# Altium integrated library Linear Technology Operational Amplifiers (LT2000-LT6000).IntLib: 1710 symbols (part 2 of 75)
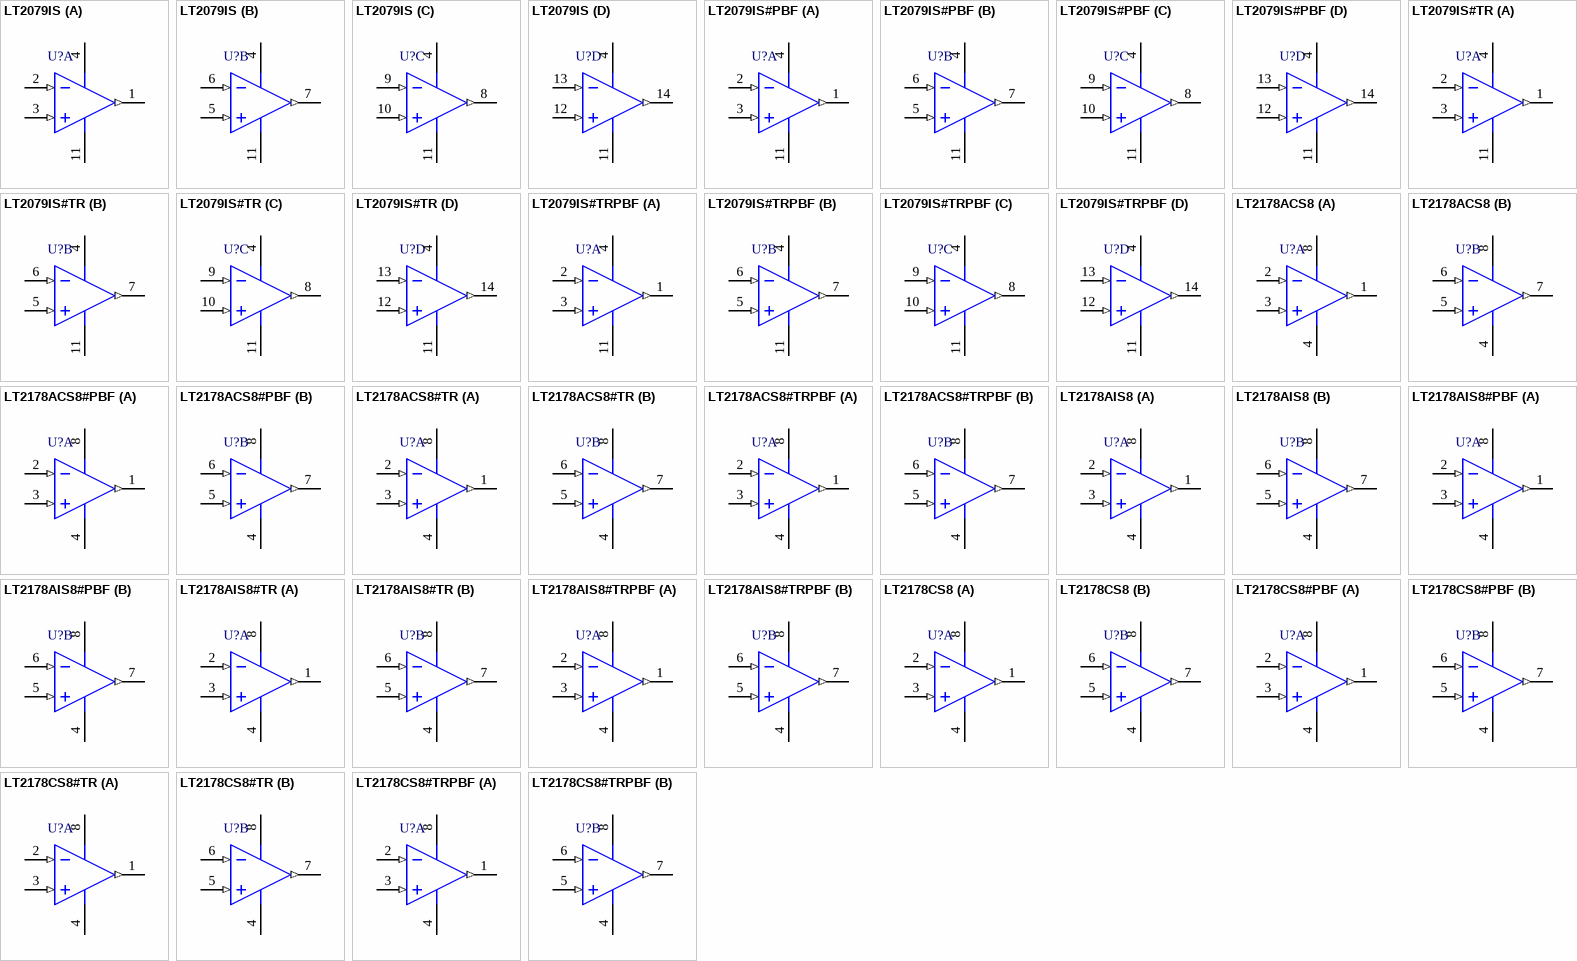
[diagram p81: symbols LT2079IS to LT2178CS8#TRPBF]

## LT2079IS#TRPBF
designator U?
Quad Channel, Micropower, Standard Pinout, Single Supply Precision Operational Amplifier, 0.2 MHz Typical GBW, 0.07 V/us Typical SR, 2.3 to 44 V, 14-Pin SOIC (S-14), Industrial, Pb-Free, Reel; Linear Technology Part Number: LT2079; Manufacturer: Linear Technology; PartNumber: LT2079IS#TRPBF; Channels (#): 4; GBW (MHz) Typical: 0.2; Is (mA) Typical: 0.035; SR (V/us) Typical: 0.07; Vos (mV) Guaranteed: 0.11; Vs Max (V): 44; Vs Min (V): 2.3; DatasheetVersion: Rev. A; PackageVersion: Rev G; PackageReference: LT-S-14; PackageDescription: 14-Lead Plastic Small Outline, Body 8.65 x 3.90 mm, Pitch 1.27 mm; Supplier 1: Digi-Key; Supplier Part Number 1: LT2079IS#TRPBF-ND; Packing: Reel; RoHS: Pb-Free; Type: VFB; Vos (mV) Typical: 0.035; Mounting Technology: Surface Mount; ComponentLink1Description: Manufacturer URL; ComponentLink1URL: http://www.linear.com/; ComponentLink2Description: Datasheet; ComponentLink2URL: http://cds.linear.com/docs/en/datasheet/20789fa.pdf; ComponentLink3Description: Package Specification; ComponentLink3URL: http://cds.linear.com/docs/en/packaging/05081610_G_S14.pdf
footprint LT-S-14_N (SOIC, 14-Leads, Body 8.65x3.90mm, Pitch 1.27mm, IPC Medium Density)
footprint LT-S-14_L (SOIC, 14-Leads, Body 8.65x3.90mm, Pitch 1.27mm, IPC High Density)
footprint LT-S-14_M (SOIC, 14-Leads, Body 8.65x3.90mm, Pitch 1.27mm, IPC Low Density)
pins on every part: 4 V+ (power), 11 V- (power)
part A pins: 1 OUT A (out), 2 -IN A (in), 3 +IN A (in)
part B pins: 5 +IN B (in), 6 -IN B (in), 7 OUT B (out)
part C pins: 8 OUT C (out), 9 -IN C (in), 10 +IN C (in)
part D pins: 12 +IN D (in), 13 -IN D (in), 14 OUT D (out)

## LT2178ACS8
designator U?
Dual Channel, Micropower, Standard Pinout, Single Supply Precision Operational Amplifier, 0.06 MHz Typical GBW, 0.025 V/us Typical SR, 2.2 to 44 V, 8-Pin SOIC (S8-8), Commercial; Linear Technology Part Number: LT2178; Manufacturer: Linear Technology; PartNumber: LT2178ACS8; Channels (#): 2; GBW (MHz) Typical: 0.06; Is (mA) Typical: 0.013; SR (V/us) Typical: 0.025; Vos (mV) Guaranteed: 0.07; Vos (mV) Typical: 0.03; Vs Max (V): 44; Vs Min (V): 2.2; DatasheetVersion: Rev. C; PackageVersion: Rev G; PackageReference: LT-S8-8; PackageDescription: 8-Pin Plastic Small Outline, Body 4.9 x 3.9 mm, Pitch 1.27 mm; Supplier 1: Digi-Key; Supplier Part Number 1: LT2178ACS8-ND; Type: VFB; Mounting Technology: Surface Mount; ComponentLink1Description: Manufacturer URL; ComponentLink1URL: http://www.linear.com/; ComponentLink2Description: Datasheet; ComponentLink2URL: http://cds.linear.com/docs/en/datasheet/21789fc.pdf; ComponentLink3Description: Package Specification; ComponentLink3URL: http://cds.linear.com/docs/en/packaging/05081610_G_SO8.pdf
footprint LT-S8-8_N (SOIC, 8-Leads, Body 4.9x3.9mm, Pitch 1.27mm, IPC Medium Density)
footprint LT-S8-8_L (SOIC, 8-Leads, Body 4.9x3.9mm, Pitch 1.27mm, IPC High Density)
footprint LT-S8-8_M (SOIC, 8-Leads, Body 4.9x3.9mm, Pitch 1.27mm, IPC Low Density)
pins on every part: 4 V- (power), 8 V+ (power)
part A pins: 1 OUT A (out), 2 -IN A (in), 3 +IN A (in)
part B pins: 5 +IN B (in), 6 -IN B (in), 7 OUT B (out)

## LT2178ACS8#PBF
designator U?
Dual Channel, Micropower, Standard Pinout, Single Supply Precision Operational Amplifier, 0.06 MHz Typical GBW, 0.025 V/us Typical SR, 2.2 to 44 V, 8-Pin SOIC (S8-8), Commercial, Pb-Free; Linear Technology Part Number: LT2178; Manufacturer: Linear Technology; PartNumber: LT2178ACS8#PBF; Channels (#): 2; GBW (MHz) Typical: 0.06; Is (mA) Typical: 0.013; SR (V/us) Typical: 0.025; Vos (mV) Guaranteed: 0.07; Vos (mV) Typical: 0.03; Vs Max (V): 44; Vs Min (V): 2.2; DatasheetVersion: Rev. C; PackageVersion: Rev G; PackageReference: LT-S8-8; PackageDescription: 8-Pin Plastic Small Outline, Body 4.9 x 3.9 mm, Pitch 1.27 mm; Supplier 1: Digi-Key; Supplier Part Number 1: LT2178ACS8#PBF-ND; RoHS: Pb-Free; Type: VFB; Mounting Technology: Surface Mount; ComponentLink1Description: Manufacturer URL; ComponentLink1URL: http://www.linear.com/; ComponentLink2Description: Datasheet; ComponentLink2URL: http://cds.linear.com/docs/en/datasheet/21789fc.pdf; ComponentLink3Description: Package Specification; ComponentLink3URL: http://cds.linear.com/docs/en/packaging/05081610_G_SO8.pdf
footprint LT-S8-8_N (SOIC, 8-Leads, Body 4.9x3.9mm, Pitch 1.27mm, IPC Medium Density)
footprint LT-S8-8_L (SOIC, 8-Leads, Body 4.9x3.9mm, Pitch 1.27mm, IPC High Density)
footprint LT-S8-8_M (SOIC, 8-Leads, Body 4.9x3.9mm, Pitch 1.27mm, IPC Low Density)
pins on every part: 4 V- (power), 8 V+ (power)
part A pins: 1 OUT A (out), 2 -IN A (in), 3 +IN A (in)
part B pins: 5 +IN B (in), 6 -IN B (in), 7 OUT B (out)

## LT2178ACS8#TR
designator U?
Dual Channel, Micropower, Standard Pinout, Single Supply Precision Operational Amplifier, 0.06 MHz Typical GBW, 0.025 V/us Typical SR, 2.2 to 44 V, 8-Pin SOIC (S8-8), Commercial, Reel; Linear Technology Part Number: LT2178; Manufacturer: Linear Technology; PartNumber: LT2178ACS8#TR; Channels (#): 2; GBW (MHz) Typical: 0.06; Is (mA) Typical: 0.013; SR (V/us) Typical: 0.025; Vos (mV) Guaranteed: 0.07; Vos (mV) Typical: 0.03; Vs Max (V): 44; Vs Min (V): 2.2; DatasheetVersion: Rev. C; PackageVersion: Rev G; PackageReference: LT-S8-8; PackageDescription: 8-Pin Plastic Small Outline, Body 4.9 x 3.9 mm, Pitch 1.27 mm; Supplier 1: Digi-Key; Supplier Part Number 1: LT2178ACS8#TR-ND; Packing: Reel; Type: VFB; Mounting Technology: Surface Mount; ComponentLink1Description: Manufacturer URL; ComponentLink1URL: http://www.linear.com/; ComponentLink2Description: Datasheet; ComponentLink2URL: http://cds.linear.com/docs/en/datasheet/21789fc.pdf; ComponentLink3Description: Package Specification; ComponentLink3URL: http://cds.linear.com/docs/en/packaging/05081610_G_SO8.pdf
footprint LT-S8-8_N (SOIC, 8-Leads, Body 4.9x3.9mm, Pitch 1.27mm, IPC Medium Density)
footprint LT-S8-8_L (SOIC, 8-Leads, Body 4.9x3.9mm, Pitch 1.27mm, IPC High Density)
footprint LT-S8-8_M (SOIC, 8-Leads, Body 4.9x3.9mm, Pitch 1.27mm, IPC Low Density)
pins on every part: 4 V- (power), 8 V+ (power)
part A pins: 1 OUT A (out), 2 -IN A (in), 3 +IN A (in)
part B pins: 5 +IN B (in), 6 -IN B (in), 7 OUT B (out)

## LT2178ACS8#TRPBF
designator U?
Dual Channel, Micropower, Standard Pinout, Single Supply Precision Operational Amplifier, 0.06 MHz Typical GBW, 0.025 V/us Typical SR, 2.2 to 44 V, 8-Pin SOIC (S8-8), Commercial, Pb-Free, Reel; Linear Technology Part Number: LT2178; Manufacturer: Linear Technology; PartNumber: LT2178ACS8#TRPBF; Channels (#): 2; GBW (MHz) Typical: 0.06; Is (mA) Typical: 0.013; SR (V/us) Typical: 0.025; Vos (mV) Guaranteed: 0.07; Vos (mV) Typical: 0.03; Vs Max (V): 44; Vs Min (V): 2.2; DatasheetVersion: Rev. C; PackageVersion: Rev G; PackageReference: LT-S8-8; PackageDescription: 8-Pin Plastic Small Outline, Body 4.9 x 3.9 mm, Pitch 1.27 mm; Supplier 1: Digi-Key; Supplier Part Number 1: LT2178ACS8#TRPBF-ND; Packing: Reel; RoHS: Pb-Free; Type: VFB; Mounting Technology: Surface Mount; ComponentLink1Description: Manufacturer URL; ComponentLink1URL: http://www.linear.com/; ComponentLink2Description: Datasheet; ComponentLink2URL: http://cds.linear.com/docs/en/datasheet/21789fc.pdf; ComponentLink3Description: Package Specification; ComponentLink3URL: http://cds.linear.com/docs/en/packaging/05081610_G_SO8.pdf
footprint LT-S8-8_N (SOIC, 8-Leads, Body 4.9x3.9mm, Pitch 1.27mm, IPC Medium Density)
footprint LT-S8-8_L (SOIC, 8-Leads, Body 4.9x3.9mm, Pitch 1.27mm, IPC High Density)
footprint LT-S8-8_M (SOIC, 8-Leads, Body 4.9x3.9mm, Pitch 1.27mm, IPC Low Density)
pins on every part: 4 V- (power), 8 V+ (power)
part A pins: 1 OUT A (out), 2 -IN A (in), 3 +IN A (in)
part B pins: 5 +IN B (in), 6 -IN B (in), 7 OUT B (out)

## LT2178AIS8
designator U?
Dual Channel, Micropower, Standard Pinout, Single Supply Precision Operational Amplifier, 0.06 MHz Typical GBW, 0.025 V/us Typical SR, 2.2 to 44 V, 8-Pin SOIC (S8-8), Industrial; Linear Technology Part Number: LT2178; Manufacturer: Linear Technology; PartNumber: LT2178AIS8; Channels (#): 2; GBW (MHz) Typical: 0.06; Is (mA) Typical: 0.013; SR (V/us) Typical: 0.025; Vos (mV) Guaranteed: 0.07; Vos (mV) Typical: 0.03; Vs Max (V): 44; Vs Min (V): 2.2; DatasheetVersion: Rev. C; PackageVersion: Rev G; PackageReference: LT-S8-8; PackageDescription: 8-Pin Plastic Small Outline, Body 4.9 x 3.9 mm, Pitch 1.27 mm; Supplier 1: Digi-Key; Supplier Part Number 1: LT2178AIS8-ND; Type: VFB; Mounting Technology: Surface Mount; ComponentLink1Description: Manufacturer URL; ComponentLink1URL: http://www.linear.com/; ComponentLink2Description: Datasheet; ComponentLink2URL: http://cds.linear.com/docs/en/datasheet/21789fc.pdf; ComponentLink3Description: Package Specification; ComponentLink3URL: http://cds.linear.com/docs/en/packaging/05081610_G_SO8.pdf
footprint LT-S8-8_N (SOIC, 8-Leads, Body 4.9x3.9mm, Pitch 1.27mm, IPC Medium Density)
footprint LT-S8-8_L (SOIC, 8-Leads, Body 4.9x3.9mm, Pitch 1.27mm, IPC High Density)
footprint LT-S8-8_M (SOIC, 8-Leads, Body 4.9x3.9mm, Pitch 1.27mm, IPC Low Density)
pins on every part: 4 V- (power), 8 V+ (power)
part A pins: 1 OUT A (out), 2 -IN A (in), 3 +IN A (in)
part B pins: 5 +IN B (in), 6 -IN B (in), 7 OUT B (out)

## LT2178AIS8#PBF
designator U?
Dual Channel, Micropower, Standard Pinout, Single Supply Precision Operational Amplifier, 0.06 MHz Typical GBW, 0.025 V/us Typical SR, 2.2 to 44 V, 8-Pin SOIC (S8-8), Industrial, Pb-Free; Linear Technology Part Number: LT2178; Manufacturer: Linear Technology; PartNumber: LT2178AIS8#PBF; Channels (#): 2; GBW (MHz) Typical: 0.06; Is (mA) Typical: 0.013; SR (V/us) Typical: 0.025; Vos (mV) Guaranteed: 0.07; Vos (mV) Typical: 0.03; Vs Max (V): 44; Vs Min (V): 2.2; DatasheetVersion: Rev. C; PackageVersion: Rev G; PackageReference: LT-S8-8; PackageDescription: 8-Pin Plastic Small Outline, Body 4.9 x 3.9 mm, Pitch 1.27 mm; Supplier 1: Digi-Key; Supplier Part Number 1: LT2178AIS8#PBF-ND; Supplier 2: Newark; Supplier Part Number 2: 57M7803; RoHS: Pb-Free; Type: VFB; Mounting Technology: Surface Mount; ComponentLink1Description: Manufacturer URL; ComponentLink1URL: http://www.linear.com/; ComponentLink2Description: Datasheet; ComponentLink2URL: http://cds.linear.com/docs/en/datasheet/21789fc.pdf; ComponentLink3Description: Package Specification; ComponentLink3URL: http://cds.linear.com/docs/en/packaging/05081610_G_SO8.pdf
footprint LT-S8-8_N (SOIC, 8-Leads, Body 4.9x3.9mm, Pitch 1.27mm, IPC Medium Density)
footprint LT-S8-8_L (SOIC, 8-Leads, Body 4.9x3.9mm, Pitch 1.27mm, IPC High Density)
footprint LT-S8-8_M (SOIC, 8-Leads, Body 4.9x3.9mm, Pitch 1.27mm, IPC Low Density)
pins on every part: 4 V- (power), 8 V+ (power)
part A pins: 1 OUT A (out), 2 -IN A (in), 3 +IN A (in)
part B pins: 5 +IN B (in), 6 -IN B (in), 7 OUT B (out)

## LT2178AIS8#TR
designator U?
Dual Channel, Micropower, Standard Pinout, Single Supply Precision Operational Amplifier, 0.06 MHz Typical GBW, 0.025 V/us Typical SR, 2.2 to 44 V, 8-Pin SOIC (S8-8), Industrial, Reel; Linear Technology Part Number: LT2178; Manufacturer: Linear Technology; PartNumber: LT2178AIS8#TR; Channels (#): 2; GBW (MHz) Typical: 0.06; Is (mA) Typical: 0.013; SR (V/us) Typical: 0.025; Vos (mV) Guaranteed: 0.07; Vos (mV) Typical: 0.03; Vs Max (V): 44; Vs Min (V): 2.2; DatasheetVersion: Rev. C; PackageVersion: Rev G; PackageReference: LT-S8-8; PackageDescription: 8-Pin Plastic Small Outline, Body 4.9 x 3.9 mm, Pitch 1.27 mm; Supplier 1: Digi-Key; Supplier Part Number 1: LT2178AIS8#TR-ND; Packing: Reel; Type: VFB; Mounting Technology: Surface Mount; ComponentLink1Description: Manufacturer URL; ComponentLink1URL: http://www.linear.com/; ComponentLink2Description: Datasheet; ComponentLink2URL: http://cds.linear.com/docs/en/datasheet/21789fc.pdf; ComponentLink3Description: Package Specification; ComponentLink3URL: http://cds.linear.com/docs/en/packaging/05081610_G_SO8.pdf
footprint LT-S8-8_N (SOIC, 8-Leads, Body 4.9x3.9mm, Pitch 1.27mm, IPC Medium Density)
footprint LT-S8-8_L (SOIC, 8-Leads, Body 4.9x3.9mm, Pitch 1.27mm, IPC High Density)
footprint LT-S8-8_M (SOIC, 8-Leads, Body 4.9x3.9mm, Pitch 1.27mm, IPC Low Density)
pins on every part: 4 V- (power), 8 V+ (power)
part A pins: 1 OUT A (out), 2 -IN A (in), 3 +IN A (in)
part B pins: 5 +IN B (in), 6 -IN B (in), 7 OUT B (out)

## LT2178AIS8#TRPBF
designator U?
Dual Channel, Micropower, Standard Pinout, Single Supply Precision Operational Amplifier, 0.06 MHz Typical GBW, 0.025 V/us Typical SR, 2.2 to 44 V, 8-Pin SOIC (S8-8), Industrial, Pb-Free, Reel; Linear Technology Part Number: LT2178; Manufacturer: Linear Technology; PartNumber: LT2178AIS8#TRPBF; Channels (#): 2; GBW (MHz) Typical: 0.06; Is (mA) Typical: 0.013; SR (V/us) Typical: 0.025; Vos (mV) Guaranteed: 0.07; Vos (mV) Typical: 0.03; Vs Max (V): 44; Vs Min (V): 2.2; DatasheetVersion: Rev. C; PackageVersion: Rev G; PackageReference: LT-S8-8; PackageDescription: 8-Pin Plastic Small Outline, Body 4.9 x 3.9 mm, Pitch 1.27 mm; Supplier 1: Digi-Key; Supplier Part Number 1: LT2178AIS8#TRPBF-ND; Packing: Reel; RoHS: Pb-Free; Type: VFB; Mounting Technology: Surface Mount; ComponentLink1Description: Manufacturer URL; ComponentLink1URL: http://www.linear.com/; ComponentLink2Description: Datasheet; ComponentLink2URL: http://cds.linear.com/docs/en/datasheet/21789fc.pdf; ComponentLink3Description: Package Specification; ComponentLink3URL: http://cds.linear.com/docs/en/packaging/05081610_G_SO8.pdf
footprint LT-S8-8_N (SOIC, 8-Leads, Body 4.9x3.9mm, Pitch 1.27mm, IPC Medium Density)
footprint LT-S8-8_L (SOIC, 8-Leads, Body 4.9x3.9mm, Pitch 1.27mm, IPC High Density)
footprint LT-S8-8_M (SOIC, 8-Leads, Body 4.9x3.9mm, Pitch 1.27mm, IPC Low Density)
pins on every part: 4 V- (power), 8 V+ (power)
part A pins: 1 OUT A (out), 2 -IN A (in), 3 +IN A (in)
part B pins: 5 +IN B (in), 6 -IN B (in), 7 OUT B (out)

## LT2178CS8
designator U?
Dual Channel, Micropower, Standard Pinout, Single Supply Precision Operational Amplifier, 0.06 MHz Typical GBW, 0.025 V/us Typical SR, 2.2 to 44 V, 8-Pin SOIC (S8-8), Commercial; Linear Technology Part Number: LT2178; Manufacturer: Linear Technology; PartNumber: LT2178CS8; Channels (#): 2; GBW (MHz) Typical: 0.06; Is (mA) Typical: 0.013; SR (V/us) Typical: 0.025; Vos (mV) Guaranteed: 0.07; Vos (mV) Typical: 0.03; Vs Max (V): 44; Vs Min (V): 2.2; DatasheetVersion: Rev. C; PackageVersion: Rev G; PackageReference: LT-S8-8; PackageDescription: 8-Pin Plastic Small Outline, Body 4.9 x 3.9 mm, Pitch 1.27 mm; Supplier 1: Digi-Key; Supplier Part Number 1: LT2178CS8-ND; Type: VFB; Mounting Technology: Surface Mount; ComponentLink1Description: Manufacturer URL; ComponentLink1URL: http://www.linear.com/; ComponentLink2Description: Datasheet; ComponentLink2URL: http://cds.linear.com/docs/en/datasheet/21789fc.pdf; ComponentLink3Description: Package Specification; ComponentLink3URL: http://cds.linear.com/docs/en/packaging/05081610_G_SO8.pdf
footprint LT-S8-8_N (SOIC, 8-Leads, Body 4.9x3.9mm, Pitch 1.27mm, IPC Medium Density)
footprint LT-S8-8_L (SOIC, 8-Leads, Body 4.9x3.9mm, Pitch 1.27mm, IPC High Density)
footprint LT-S8-8_M (SOIC, 8-Leads, Body 4.9x3.9mm, Pitch 1.27mm, IPC Low Density)
pins on every part: 4 V- (power), 8 V+ (power)
part A pins: 1 OUT A (out), 2 -IN A (in), 3 +IN A (in)
part B pins: 5 +IN B (in), 6 -IN B (in), 7 OUT B (out)

## LT2178CS8#PBF
designator U?
Dual Channel, Micropower, Standard Pinout, Single Supply Precision Operational Amplifier, 0.06 MHz Typical GBW, 0.025 V/us Typical SR, 2.2 to 44 V, 8-Pin SOIC (S8-8), Commercial, Pb-Free; Linear Technology Part Number: LT2178; Manufacturer: Linear Technology; PartNumber: LT2178CS8#PBF; Channels (#): 2; GBW (MHz) Typical: 0.06; Is (mA) Typical: 0.013; SR (V/us) Typical: 0.025; Vos (mV) Guaranteed: 0.07; Vos (mV) Typical: 0.03; Vs Max (V): 44; Vs Min (V): 2.2; DatasheetVersion: Rev. C; PackageVersion: Rev G; PackageReference: LT-S8-8; PackageDescription: 8-Pin Plastic Small Outline, Body 4.9 x 3.9 mm, Pitch 1.27 mm; Supplier 1: Digi-Key; Supplier Part Number 1: LT2178CS8#PBF-ND; RoHS: Pb-Free; Type: VFB; Mounting Technology: Surface Mount; ComponentLink1Description: Manufacturer URL; ComponentLink1URL: http://www.linear.com/; ComponentLink2Description: Datasheet; ComponentLink2URL: http://cds.linear.com/docs/en/datasheet/21789fc.pdf; ComponentLink3Description: Package Specification; ComponentLink3URL: http://cds.linear.com/docs/en/packaging/05081610_G_SO8.pdf
footprint LT-S8-8_N (SOIC, 8-Leads, Body 4.9x3.9mm, Pitch 1.27mm, IPC Medium Density)
footprint LT-S8-8_L (SOIC, 8-Leads, Body 4.9x3.9mm, Pitch 1.27mm, IPC High Density)
footprint LT-S8-8_M (SOIC, 8-Leads, Body 4.9x3.9mm, Pitch 1.27mm, IPC Low Density)
pins on every part: 4 V- (power), 8 V+ (power)
part A pins: 1 OUT A (out), 2 -IN A (in), 3 +IN A (in)
part B pins: 5 +IN B (in), 6 -IN B (in), 7 OUT B (out)

## LT2178CS8#TR
designator U?
Dual Channel, Micropower, Standard Pinout, Single Supply Precision Operational Amplifier, 0.06 MHz Typical GBW, 0.025 V/us Typical SR, 2.2 to 44 V, 8-Pin SOIC (S8-8), Commercial, Reel; Linear Technology Part Number: LT2178; Manufacturer: Linear Technology; PartNumber: LT2178CS8#TR; Channels (#): 2; GBW (MHz) Typical: 0.06; Is (mA) Typical: 0.013; SR (V/us) Typical: 0.025; Vos (mV) Guaranteed: 0.07; Vos (mV) Typical: 0.03; Vs Max (V): 44; Vs Min (V): 2.2; DatasheetVersion: Rev. C; PackageVersion: Rev G; PackageReference: LT-S8-8; PackageDescription: 8-Pin Plastic Small Outline, Body 4.9 x 3.9 mm, Pitch 1.27 mm; Supplier 1: Digi-Key; Supplier Part Number 1: LT2178CS8#TR-ND; Packing: Reel; Type: VFB; Mounting Technology: Surface Mount; ComponentLink1Description: Manufacturer URL; ComponentLink1URL: http://www.linear.com/; ComponentLink2Description: Datasheet; ComponentLink2URL: http://cds.linear.com/docs/en/datasheet/21789fc.pdf; ComponentLink3Description: Package Specification; ComponentLink3URL: http://cds.linear.com/docs/en/packaging/05081610_G_SO8.pdf
footprint LT-S8-8_N (SOIC, 8-Leads, Body 4.9x3.9mm, Pitch 1.27mm, IPC Medium Density)
footprint LT-S8-8_L (SOIC, 8-Leads, Body 4.9x3.9mm, Pitch 1.27mm, IPC High Density)
footprint LT-S8-8_M (SOIC, 8-Leads, Body 4.9x3.9mm, Pitch 1.27mm, IPC Low Density)
pins on every part: 4 V- (power), 8 V+ (power)
part A pins: 1 OUT A (out), 2 -IN A (in), 3 +IN A (in)
part B pins: 5 +IN B (in), 6 -IN B (in), 7 OUT B (out)

## LT2178CS8#TRPBF
designator U?
Dual Channel, Micropower, Standard Pinout, Single Supply Precision Operational Amplifier, 0.06 MHz Typical GBW, 0.025 V/us Typical SR, 2.2 to 44 V, 8-Pin SOIC (S8-8), Commercial, Pb-Free, Reel; Linear Technology Part Number: LT2178; Manufacturer: Linear Technology; PartNumber: LT2178CS8#TRPBF; Channels (#): 2; GBW (MHz) Typical: 0.06; Is (mA) Typical: 0.013; SR (V/us) Typical: 0.025; Vos (mV) Guaranteed: 0.07; Vos (mV) Typical: 0.03; Vs Max (V): 44; Vs Min (V): 2.2; DatasheetVersion: Rev. C; PackageVersion: Rev G; PackageReference: LT-S8-8; PackageDescription: 8-Pin Plastic Small Outline, Body 4.9 x 3.9 mm, Pitch 1.27 mm; Supplier 1: Digi-Key; Supplier Part Number 1: LT2178CS8#TRPBF-ND; Packing: Reel; RoHS: Pb-Free; Type: VFB; Mounting Technology: Surface Mount; ComponentLink1Description: Manufacturer URL; ComponentLink1URL: http://www.linear.com/; ComponentLink2Description: Datasheet; ComponentLink2URL: http://cds.linear.com/docs/en/datasheet/21789fc.pdf; ComponentLink3Description: Package Specification; ComponentLink3URL: http://cds.linear.com/docs/en/packaging/05081610_G_SO8.pdf
footprint LT-S8-8_N (SOIC, 8-Leads, Body 4.9x3.9mm, Pitch 1.27mm, IPC Medium Density)
footprint LT-S8-8_L (SOIC, 8-Leads, Body 4.9x3.9mm, Pitch 1.27mm, IPC High Density)
footprint LT-S8-8_M (SOIC, 8-Leads, Body 4.9x3.9mm, Pitch 1.27mm, IPC Low Density)
pins on every part: 4 V- (power), 8 V+ (power)
part A pins: 1 OUT A (out), 2 -IN A (in), 3 +IN A (in)
part B pins: 5 +IN B (in), 6 -IN B (in), 7 OUT B (out)

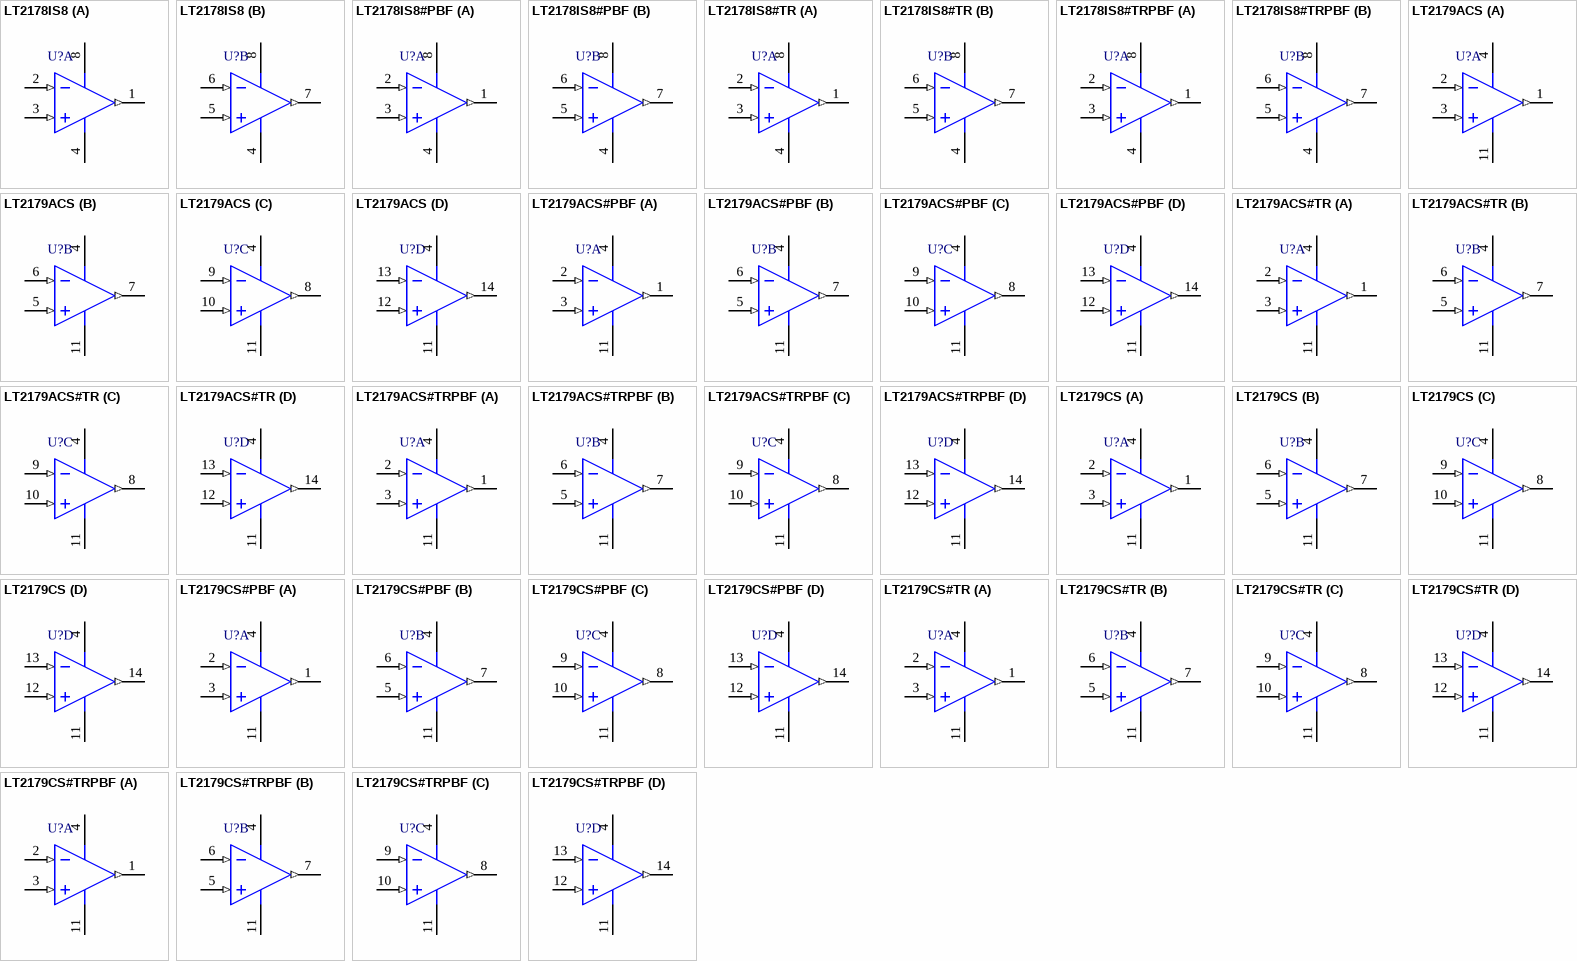
[diagram p3: symbols LT2178IS8 to LT2179CS#TRPBF]

## LT2178IS8
designator U?
Dual Channel, Micropower, Standard Pinout, Single Supply Precision Operational Amplifier, 0.06 MHz Typical GBW, 0.025 V/us Typical SR, 2.2 to 44 V, 8-Pin SOIC (S8-8), Industrial; Linear Technology Part Number: LT2178; Manufacturer: Linear Technology; PartNumber: LT2178IS8; Channels (#): 2; GBW (MHz) Typical: 0.06; Is (mA) Typical: 0.013; SR (V/us) Typical: 0.025; Vos (mV) Guaranteed: 0.07; Vos (mV) Typical: 0.03; Vs Max (V): 44; Vs Min (V): 2.2; DatasheetVersion: Rev. C; PackageVersion: Rev G; PackageReference: LT-S8-8; PackageDescription: 8-Pin Plastic Small Outline, Body 4.9 x 3.9 mm, Pitch 1.27 mm; Supplier 1: Digi-Key; Supplier Part Number 1: LT2178IS8-ND; Type: VFB; Mounting Technology: Surface Mount; ComponentLink1Description: Manufacturer URL; ComponentLink1URL: http://www.linear.com/; ComponentLink2Description: Datasheet; ComponentLink2URL: http://cds.linear.com/docs/en/datasheet/21789fc.pdf; ComponentLink3Description: Package Specification; ComponentLink3URL: http://cds.linear.com/docs/en/packaging/05081610_G_SO8.pdf
footprint LT-S8-8_N (SOIC, 8-Leads, Body 4.9x3.9mm, Pitch 1.27mm, IPC Medium Density)
footprint LT-S8-8_L (SOIC, 8-Leads, Body 4.9x3.9mm, Pitch 1.27mm, IPC High Density)
footprint LT-S8-8_M (SOIC, 8-Leads, Body 4.9x3.9mm, Pitch 1.27mm, IPC Low Density)
pins on every part: 4 V- (power), 8 V+ (power)
part A pins: 1 OUT A (out), 2 -IN A (in), 3 +IN A (in)
part B pins: 5 +IN B (in), 6 -IN B (in), 7 OUT B (out)

## LT2178IS8#PBF
designator U?
Dual Channel, Micropower, Standard Pinout, Single Supply Precision Operational Amplifier, 0.06 MHz Typical GBW, 0.025 V/us Typical SR, 2.2 to 44 V, 8-Pin SOIC (S8-8), Industrial, Pb-Free; Linear Technology Part Number: LT2178; Manufacturer: Linear Technology; PartNumber: LT2178IS8#PBF; Channels (#): 2; GBW (MHz) Typical: 0.06; Is (mA) Typical: 0.013; SR (V/us) Typical: 0.025; Vos (mV) Guaranteed: 0.07; Vos (mV) Typical: 0.03; Vs Max (V): 44; Vs Min (V): 2.2; DatasheetVersion: Rev. C; PackageVersion: Rev G; PackageReference: LT-S8-8; PackageDescription: 8-Pin Plastic Small Outline, Body 4.9 x 3.9 mm, Pitch 1.27 mm; Supplier 1: Digi-Key; Supplier Part Number 1: LT2178IS8#PBF-ND; Supplier 2: Newark; Supplier Part Number 2: 57M7811; RoHS: Pb-Free; Type: VFB; Mounting Technology: Surface Mount; ComponentLink1Description: Manufacturer URL; ComponentLink1URL: http://www.linear.com/; ComponentLink2Description: Datasheet; ComponentLink2URL: http://cds.linear.com/docs/en/datasheet/21789fc.pdf; ComponentLink3Description: Package Specification; ComponentLink3URL: http://cds.linear.com/docs/en/packaging/05081610_G_SO8.pdf
footprint LT-S8-8_N (SOIC, 8-Leads, Body 4.9x3.9mm, Pitch 1.27mm, IPC Medium Density)
footprint LT-S8-8_L (SOIC, 8-Leads, Body 4.9x3.9mm, Pitch 1.27mm, IPC High Density)
footprint LT-S8-8_M (SOIC, 8-Leads, Body 4.9x3.9mm, Pitch 1.27mm, IPC Low Density)
pins on every part: 4 V- (power), 8 V+ (power)
part A pins: 1 OUT A (out), 2 -IN A (in), 3 +IN A (in)
part B pins: 5 +IN B (in), 6 -IN B (in), 7 OUT B (out)

## LT2178IS8#TR
designator U?
Dual Channel, Micropower, Standard Pinout, Single Supply Precision Operational Amplifier, 0.06 MHz Typical GBW, 0.025 V/us Typical SR, 2.2 to 44 V, 8-Pin SOIC (S8-8), Industrial, Reel; Linear Technology Part Number: LT2178; Manufacturer: Linear Technology; PartNumber: LT2178IS8#TR; Channels (#): 2; GBW (MHz) Typical: 0.06; Is (mA) Typical: 0.013; SR (V/us) Typical: 0.025; Vos (mV) Guaranteed: 0.07; Vos (mV) Typical: 0.03; Vs Max (V): 44; Vs Min (V): 2.2; DatasheetVersion: Rev. C; PackageVersion: Rev G; PackageReference: LT-S8-8; PackageDescription: 8-Pin Plastic Small Outline, Body 4.9 x 3.9 mm, Pitch 1.27 mm; Supplier 1: Digi-Key; Supplier Part Number 1: LT2178IS8#TR-ND; Packing: Reel; Type: VFB; Mounting Technology: Surface Mount; ComponentLink1Description: Manufacturer URL; ComponentLink1URL: http://www.linear.com/; ComponentLink2Description: Datasheet; ComponentLink2URL: http://cds.linear.com/docs/en/datasheet/21789fc.pdf; ComponentLink3Description: Package Specification; ComponentLink3URL: http://cds.linear.com/docs/en/packaging/05081610_G_SO8.pdf
footprint LT-S8-8_N (SOIC, 8-Leads, Body 4.9x3.9mm, Pitch 1.27mm, IPC Medium Density)
footprint LT-S8-8_L (SOIC, 8-Leads, Body 4.9x3.9mm, Pitch 1.27mm, IPC High Density)
footprint LT-S8-8_M (SOIC, 8-Leads, Body 4.9x3.9mm, Pitch 1.27mm, IPC Low Density)
pins on every part: 4 V- (power), 8 V+ (power)
part A pins: 1 OUT A (out), 2 -IN A (in), 3 +IN A (in)
part B pins: 5 +IN B (in), 6 -IN B (in), 7 OUT B (out)

## LT2178IS8#TRPBF
designator U?
Dual Channel, Micropower, Standard Pinout, Single Supply Precision Operational Amplifier, 0.06 MHz Typical GBW, 0.025 V/us Typical SR, 2.2 to 44 V, 8-Pin SOIC (S8-8), Industrial, Pb-Free, Reel; Linear Technology Part Number: LT2178; Manufacturer: Linear Technology; PartNumber: LT2178IS8#TRPBF; Channels (#): 2; GBW (MHz) Typical: 0.06; Is (mA) Typical: 0.013; SR (V/us) Typical: 0.025; Vos (mV) Guaranteed: 0.07; Vos (mV) Typical: 0.03; Vs Max (V): 44; Vs Min (V): 2.2; DatasheetVersion: Rev. C; PackageVersion: Rev G; PackageReference: LT-S8-8; PackageDescription: 8-Pin Plastic Small Outline, Body 4.9 x 3.9 mm, Pitch 1.27 mm; Supplier 1: Digi-Key; Supplier Part Number 1: LT2178IS8#TRPBF-ND; Packing: Reel; RoHS: Pb-Free; Type: VFB; Mounting Technology: Surface Mount; ComponentLink1Description: Manufacturer URL; ComponentLink1URL: http://www.linear.com/; ComponentLink2Description: Datasheet; ComponentLink2URL: http://cds.linear.com/docs/en/datasheet/21789fc.pdf; ComponentLink3Description: Package Specification; ComponentLink3URL: http://cds.linear.com/docs/en/packaging/05081610_G_SO8.pdf
footprint LT-S8-8_N (SOIC, 8-Leads, Body 4.9x3.9mm, Pitch 1.27mm, IPC Medium Density)
footprint LT-S8-8_L (SOIC, 8-Leads, Body 4.9x3.9mm, Pitch 1.27mm, IPC High Density)
footprint LT-S8-8_M (SOIC, 8-Leads, Body 4.9x3.9mm, Pitch 1.27mm, IPC Low Density)
pins on every part: 4 V- (power), 8 V+ (power)
part A pins: 1 OUT A (out), 2 -IN A (in), 3 +IN A (in)
part B pins: 5 +IN B (in), 6 -IN B (in), 7 OUT B (out)

## LT2179ACS
designator U?
Quad Channel, Micropower, Standard Pinout, Single Supply Precision Operational Amplifier, 0.06 MHz Typical GBW, 0.025 V/us Typical SR, 2.2 to 44 V, 14-Pin SOIC (S-14), Commercial; Linear Technology Part Number: LT2179; Manufacturer: Linear Technology; PartNumber: LT2179ACS; Channels (#): 4; GBW (MHz) Typical: 0.06; Is (mA) Typical: 0.013; SR (V/us) Typical: 0.025; Vos (mV) Guaranteed: 0.1; Vos (mV) Typical: 0.035; Vs Max (V): 44; Vs Min (V): 2.2; DatasheetVersion: Rev. C; PackageVersion: Rev G; PackageReference: LT-S-14; PackageDescription: 14-Lead Plastic Small Outline, Body 8.65 x 3.90 mm, Pitch 1.27 mm; Supplier 1: Digi-Key; Supplier Part Number 1: LT2179ACS-ND; Type: VFB; Mounting Technology: Surface Mount; ComponentLink1Description: Manufacturer URL; ComponentLink1URL: http://www.linear.com/; ComponentLink2Description: Datasheet; ComponentLink2URL: http://cds.linear.com/docs/en/datasheet/21789fc.pdf; ComponentLink3Description: Package Specification; ComponentLink3URL: http://cds.linear.com/docs/en/packaging/05081610_G_S14.pdf
footprint LT-S-14_N (SOIC, 14-Leads, Body 8.65x3.90mm, Pitch 1.27mm, IPC Medium Density)
footprint LT-S-14_L (SOIC, 14-Leads, Body 8.65x3.90mm, Pitch 1.27mm, IPC High Density)
footprint LT-S-14_M (SOIC, 14-Leads, Body 8.65x3.90mm, Pitch 1.27mm, IPC Low Density)
pins on every part: 4 V+ (power), 11 V- (power)
part A pins: 1 OUT A (out), 2 -IN A (in), 3 +IN A (in)
part B pins: 5 +IN B (in), 6 -IN B (in), 7 OUT B (out)
part C pins: 8 OUT C (out), 9 -IN C (in), 10 +IN C (in)
part D pins: 12 +IN D (in), 13 -IN D (in), 14 OUT D (out)

## LT2179ACS#PBF
designator U?
Quad Channel, Micropower, Standard Pinout, Single Supply Precision Operational Amplifier, 0.06 MHz Typical GBW, 0.025 V/us Typical SR, 2.2 to 44 V, 14-Pin SOIC (S-14), Commercial, Pb-Free; Linear Technology Part Number: LT2179; Manufacturer: Linear Technology; PartNumber: LT2179ACS#PBF; Channels (#): 4; GBW (MHz) Typical: 0.06; Is (mA) Typical: 0.013; SR (V/us) Typical: 0.025; Vos (mV) Guaranteed: 0.1; Vos (mV) Typical: 0.035; Vs Max (V): 44; Vs Min (V): 2.2; DatasheetVersion: Rev. C; PackageVersion: Rev G; PackageReference: LT-S-14; PackageDescription: 14-Lead Plastic Small Outline, Body 8.65 x 3.90 mm, Pitch 1.27 mm; Supplier 1: Digi-Key; Supplier Part Number 1: LT2179ACS#PBF-ND; RoHS: Pb-Free; Type: VFB; Mounting Technology: Surface Mount; ComponentLink1Description: Manufacturer URL; ComponentLink1URL: http://www.linear.com/; ComponentLink2Description: Datasheet; ComponentLink2URL: http://cds.linear.com/docs/en/datasheet/21789fc.pdf; ComponentLink3Description: Package Specification; ComponentLink3URL: http://cds.linear.com/docs/en/packaging/05081610_G_S14.pdf
footprint LT-S-14_N (SOIC, 14-Leads, Body 8.65x3.90mm, Pitch 1.27mm, IPC Medium Density)
footprint LT-S-14_L (SOIC, 14-Leads, Body 8.65x3.90mm, Pitch 1.27mm, IPC High Density)
footprint LT-S-14_M (SOIC, 14-Leads, Body 8.65x3.90mm, Pitch 1.27mm, IPC Low Density)
pins on every part: 4 V+ (power), 11 V- (power)
part A pins: 1 OUT A (out), 2 -IN A (in), 3 +IN A (in)
part B pins: 5 +IN B (in), 6 -IN B (in), 7 OUT B (out)
part C pins: 8 OUT C (out), 9 -IN C (in), 10 +IN C (in)
part D pins: 12 +IN D (in), 13 -IN D (in), 14 OUT D (out)

## LT2179ACS#TR
designator U?
Quad Channel, Micropower, Standard Pinout, Single Supply Precision Operational Amplifier, 0.06 MHz Typical GBW, 0.025 V/us Typical SR, 2.2 to 44 V, 14-Pin SOIC (S-14), Commercial, Reel; Linear Technology Part Number: LT2179; Manufacturer: Linear Technology; PartNumber: LT2179ACS#TR; Channels (#): 4; GBW (MHz) Typical: 0.06; Is (mA) Typical: 0.013; SR (V/us) Typical: 0.025; Vos (mV) Guaranteed: 0.1; Vos (mV) Typical: 0.035; Vs Max (V): 44; Vs Min (V): 2.2; DatasheetVersion: Rev. C; PackageVersion: Rev G; PackageReference: LT-S-14; PackageDescription: 14-Lead Plastic Small Outline, Body 8.65 x 3.90 mm, Pitch 1.27 mm; Supplier 1: Digi-Key; Supplier Part Number 1: LT2179ACS#TR-ND; Packing: Reel; Type: VFB; Mounting Technology: Surface Mount; ComponentLink1Description: Manufacturer URL; ComponentLink1URL: http://www.linear.com/; ComponentLink2Description: Datasheet; ComponentLink2URL: http://cds.linear.com/docs/en/datasheet/21789fc.pdf; ComponentLink3Description: Package Specification; ComponentLink3URL: http://cds.linear.com/docs/en/packaging/05081610_G_S14.pdf
footprint LT-S-14_N (SOIC, 14-Leads, Body 8.65x3.90mm, Pitch 1.27mm, IPC Medium Density)
footprint LT-S-14_L (SOIC, 14-Leads, Body 8.65x3.90mm, Pitch 1.27mm, IPC High Density)
footprint LT-S-14_M (SOIC, 14-Leads, Body 8.65x3.90mm, Pitch 1.27mm, IPC Low Density)
pins on every part: 4 V+ (power), 11 V- (power)
part A pins: 1 OUT A (out), 2 -IN A (in), 3 +IN A (in)
part B pins: 5 +IN B (in), 6 -IN B (in), 7 OUT B (out)
part C pins: 8 OUT C (out), 9 -IN C (in), 10 +IN C (in)
part D pins: 12 +IN D (in), 13 -IN D (in), 14 OUT D (out)

## LT2179ACS#TRPBF
designator U?
Quad Channel, Micropower, Standard Pinout, Single Supply Precision Operational Amplifier, 0.06 MHz Typical GBW, 0.025 V/us Typical SR, 2.2 to 44 V, 14-Pin SOIC (S-14), Commercial, Pb-Free, Reel; Linear Technology Part Number: LT2179; Manufacturer: Linear Technology; PartNumber: LT2179ACS#TRPBF; Channels (#): 4; GBW (MHz) Typical: 0.06; Is (mA) Typical: 0.013; SR (V/us) Typical: 0.025; Vos (mV) Guaranteed: 0.1; Vos (mV) Typical: 0.035; Vs Max (V): 44; Vs Min (V): 2.2; DatasheetVersion: Rev. C; PackageVersion: Rev G; PackageReference: LT-S-14; PackageDescription: 14-Lead Plastic Small Outline, Body 8.65 x 3.90 mm, Pitch 1.27 mm; Supplier 1: Digi-Key; Supplier Part Number 1: LT2179ACS#TRPBF-ND; Packing: Reel; RoHS: Pb-Free; Type: VFB; Mounting Technology: Surface Mount; ComponentLink1Description: Manufacturer URL; ComponentLink1URL: http://www.linear.com/; ComponentLink2Description: Datasheet; ComponentLink2URL: http://cds.linear.com/docs/en/datasheet/21789fc.pdf; ComponentLink3Description: Package Specification; ComponentLink3URL: http://cds.linear.com/docs/en/packaging/05081610_G_S14.pdf
footprint LT-S-14_N (SOIC, 14-Leads, Body 8.65x3.90mm, Pitch 1.27mm, IPC Medium Density)
footprint LT-S-14_L (SOIC, 14-Leads, Body 8.65x3.90mm, Pitch 1.27mm, IPC High Density)
footprint LT-S-14_M (SOIC, 14-Leads, Body 8.65x3.90mm, Pitch 1.27mm, IPC Low Density)
pins on every part: 4 V+ (power), 11 V- (power)
part A pins: 1 OUT A (out), 2 -IN A (in), 3 +IN A (in)
part B pins: 5 +IN B (in), 6 -IN B (in), 7 OUT B (out)
part C pins: 8 OUT C (out), 9 -IN C (in), 10 +IN C (in)
part D pins: 12 +IN D (in), 13 -IN D (in), 14 OUT D (out)

## LT2179CS
designator U?
Quad Channel, Micropower, Standard Pinout, Single Supply Precision Operational Amplifier, 0.06 MHz Typical GBW, 0.025 V/us Typical SR, 2.2 to 44 V, 14-Pin SOIC (S-14), Commercial; Linear Technology Part Number: LT2179; Manufacturer: Linear Technology; PartNumber: LT2179CS; Channels (#): 4; GBW (MHz) Typical: 0.06; Is (mA) Typical: 0.013; SR (V/us) Typical: 0.025; Vos (mV) Guaranteed: 0.1; Vos (mV) Typical: 0.035; Vs Max (V): 44; Vs Min (V): 2.2; DatasheetVersion: Rev. C; PackageVersion: Rev G; PackageReference: LT-S-14; PackageDescription: 14-Lead Plastic Small Outline, Body 8.65 x 3.90 mm, Pitch 1.27 mm; Supplier 1: Digi-Key; Supplier Part Number 1: LT2179CS-ND; Type: VFB; Mounting Technology: Surface Mount; ComponentLink1Description: Manufacturer URL; ComponentLink1URL: http://www.linear.com/; ComponentLink2Description: Datasheet; ComponentLink2URL: http://cds.linear.com/docs/en/datasheet/21789fc.pdf; ComponentLink3Description: Package Specification; ComponentLink3URL: http://cds.linear.com/docs/en/packaging/05081610_G_S14.pdf
footprint LT-S-14_N (SOIC, 14-Leads, Body 8.65x3.90mm, Pitch 1.27mm, IPC Medium Density)
footprint LT-S-14_L (SOIC, 14-Leads, Body 8.65x3.90mm, Pitch 1.27mm, IPC High Density)
footprint LT-S-14_M (SOIC, 14-Leads, Body 8.65x3.90mm, Pitch 1.27mm, IPC Low Density)
pins on every part: 4 V+ (power), 11 V- (power)
part A pins: 1 OUT A (out), 2 -IN A (in), 3 +IN A (in)
part B pins: 5 +IN B (in), 6 -IN B (in), 7 OUT B (out)
part C pins: 8 OUT C (out), 9 -IN C (in), 10 +IN C (in)
part D pins: 12 +IN D (in), 13 -IN D (in), 14 OUT D (out)

## LT2179CS#PBF
designator U?
Quad Channel, Micropower, Standard Pinout, Single Supply Precision Operational Amplifier, 0.06 MHz Typical GBW, 0.025 V/us Typical SR, 2.2 to 44 V, 14-Pin SOIC (S-14), Commercial, Pb-Free; Linear Technology Part Number: LT2179; Manufacturer: Linear Technology; PartNumber: LT2179CS#PBF; Channels (#): 4; GBW (MHz) Typical: 0.06; Is (mA) Typical: 0.013; SR (V/us) Typical: 0.025; Vos (mV) Guaranteed: 0.1; Vos (mV) Typical: 0.035; Vs Max (V): 44; Vs Min (V): 2.2; DatasheetVersion: Rev. C; PackageVersion: Rev G; PackageReference: LT-S-14; PackageDescription: 14-Lead Plastic Small Outline, Body 8.65 x 3.90 mm, Pitch 1.27 mm; Supplier 1: Digi-Key; Supplier Part Number 1: LT2179CS#PBF-ND; RoHS: Pb-Free; Type: VFB; Mounting Technology: Surface Mount; ComponentLink1Description: Manufacturer URL; ComponentLink1URL: http://www.linear.com/; ComponentLink2Description: Datasheet; ComponentLink2URL: http://cds.linear.com/docs/en/datasheet/21789fc.pdf; ComponentLink3Description: Package Specification; ComponentLink3URL: http://cds.linear.com/docs/en/packaging/05081610_G_S14.pdf
footprint LT-S-14_N (SOIC, 14-Leads, Body 8.65x3.90mm, Pitch 1.27mm, IPC Medium Density)
footprint LT-S-14_L (SOIC, 14-Leads, Body 8.65x3.90mm, Pitch 1.27mm, IPC High Density)
footprint LT-S-14_M (SOIC, 14-Leads, Body 8.65x3.90mm, Pitch 1.27mm, IPC Low Density)
pins on every part: 4 V+ (power), 11 V- (power)
part A pins: 1 OUT A (out), 2 -IN A (in), 3 +IN A (in)
part B pins: 5 +IN B (in), 6 -IN B (in), 7 OUT B (out)
part C pins: 8 OUT C (out), 9 -IN C (in), 10 +IN C (in)
part D pins: 12 +IN D (in), 13 -IN D (in), 14 OUT D (out)

## LT2179CS#TR
designator U?
Quad Channel, Micropower, Standard Pinout, Single Supply Precision Operational Amplifier, 0.06 MHz Typical GBW, 0.025 V/us Typical SR, 2.2 to 44 V, 14-Pin SOIC (S-14), Commercial, Reel; Linear Technology Part Number: LT2179; Manufacturer: Linear Technology; PartNumber: LT2179CS#TR; Channels (#): 4; GBW (MHz) Typical: 0.06; Is (mA) Typical: 0.013; SR (V/us) Typical: 0.025; Vos (mV) Guaranteed: 0.1; Vos (mV) Typical: 0.035; Vs Max (V): 44; Vs Min (V): 2.2; DatasheetVersion: Rev. C; PackageVersion: Rev G; PackageReference: LT-S-14; PackageDescription: 14-Lead Plastic Small Outline, Body 8.65 x 3.90 mm, Pitch 1.27 mm; Supplier 1: Digi-Key; Supplier Part Number 1: LT2179CS#TR-ND; Packing: Reel; Type: VFB; Mounting Technology: Surface Mount; ComponentLink1Description: Manufacturer URL; ComponentLink1URL: http://www.linear.com/; ComponentLink2Description: Datasheet; ComponentLink2URL: http://cds.linear.com/docs/en/datasheet/21789fc.pdf; ComponentLink3Description: Package Specification; ComponentLink3URL: http://cds.linear.com/docs/en/packaging/05081610_G_S14.pdf
footprint LT-S-14_N (SOIC, 14-Leads, Body 8.65x3.90mm, Pitch 1.27mm, IPC Medium Density)
footprint LT-S-14_L (SOIC, 14-Leads, Body 8.65x3.90mm, Pitch 1.27mm, IPC High Density)
footprint LT-S-14_M (SOIC, 14-Leads, Body 8.65x3.90mm, Pitch 1.27mm, IPC Low Density)
pins on every part: 4 V+ (power), 11 V- (power)
part A pins: 1 OUT A (out), 2 -IN A (in), 3 +IN A (in)
part B pins: 5 +IN B (in), 6 -IN B (in), 7 OUT B (out)
part C pins: 8 OUT C (out), 9 -IN C (in), 10 +IN C (in)
part D pins: 12 +IN D (in), 13 -IN D (in), 14 OUT D (out)

## LT2179CS#TRPBF
designator U?
Quad Channel, Micropower, Standard Pinout, Single Supply Precision Operational Amplifier, 0.06 MHz Typical GBW, 0.025 V/us Typical SR, 2.2 to 44 V, 14-Pin SOIC (S-14), Commercial, Pb-Free, Reel; Linear Technology Part Number: LT2179; Manufacturer: Linear Technology; PartNumber: LT2179CS#TRPBF; Channels (#): 4; GBW (MHz) Typical: 0.06; Is (mA) Typical: 0.013; SR (V/us) Typical: 0.025; Vos (mV) Guaranteed: 0.1; Vos (mV) Typical: 0.035; Vs Max (V): 44; Vs Min (V): 2.2; DatasheetVersion: Rev. C; PackageVersion: Rev G; PackageReference: LT-S-14; PackageDescription: 14-Lead Plastic Small Outline, Body 8.65 x 3.90 mm, Pitch 1.27 mm; Supplier 1: Digi-Key; Supplier Part Number 1: LT2179CS#TRPBF-ND; Packing: Reel; RoHS: Pb-Free; Type: VFB; Mounting Technology: Surface Mount; ComponentLink1Description: Manufacturer URL; ComponentLink1URL: http://www.linear.com/; ComponentLink2Description: Datasheet; ComponentLink2URL: http://cds.linear.com/docs/en/datasheet/21789fc.pdf; ComponentLink3Description: Package Specification; ComponentLink3URL: http://cds.linear.com/docs/en/packaging/05081610_G_S14.pdf
footprint LT-S-14_N (SOIC, 14-Leads, Body 8.65x3.90mm, Pitch 1.27mm, IPC Medium Density)
footprint LT-S-14_L (SOIC, 14-Leads, Body 8.65x3.90mm, Pitch 1.27mm, IPC High Density)
footprint LT-S-14_M (SOIC, 14-Leads, Body 8.65x3.90mm, Pitch 1.27mm, IPC Low Density)
pins on every part: 4 V+ (power), 11 V- (power)
part A pins: 1 OUT A (out), 2 -IN A (in), 3 +IN A (in)
part B pins: 5 +IN B (in), 6 -IN B (in), 7 OUT B (out)
part C pins: 8 OUT C (out), 9 -IN C (in), 10 +IN C (in)
part D pins: 12 +IN D (in), 13 -IN D (in), 14 OUT D (out)

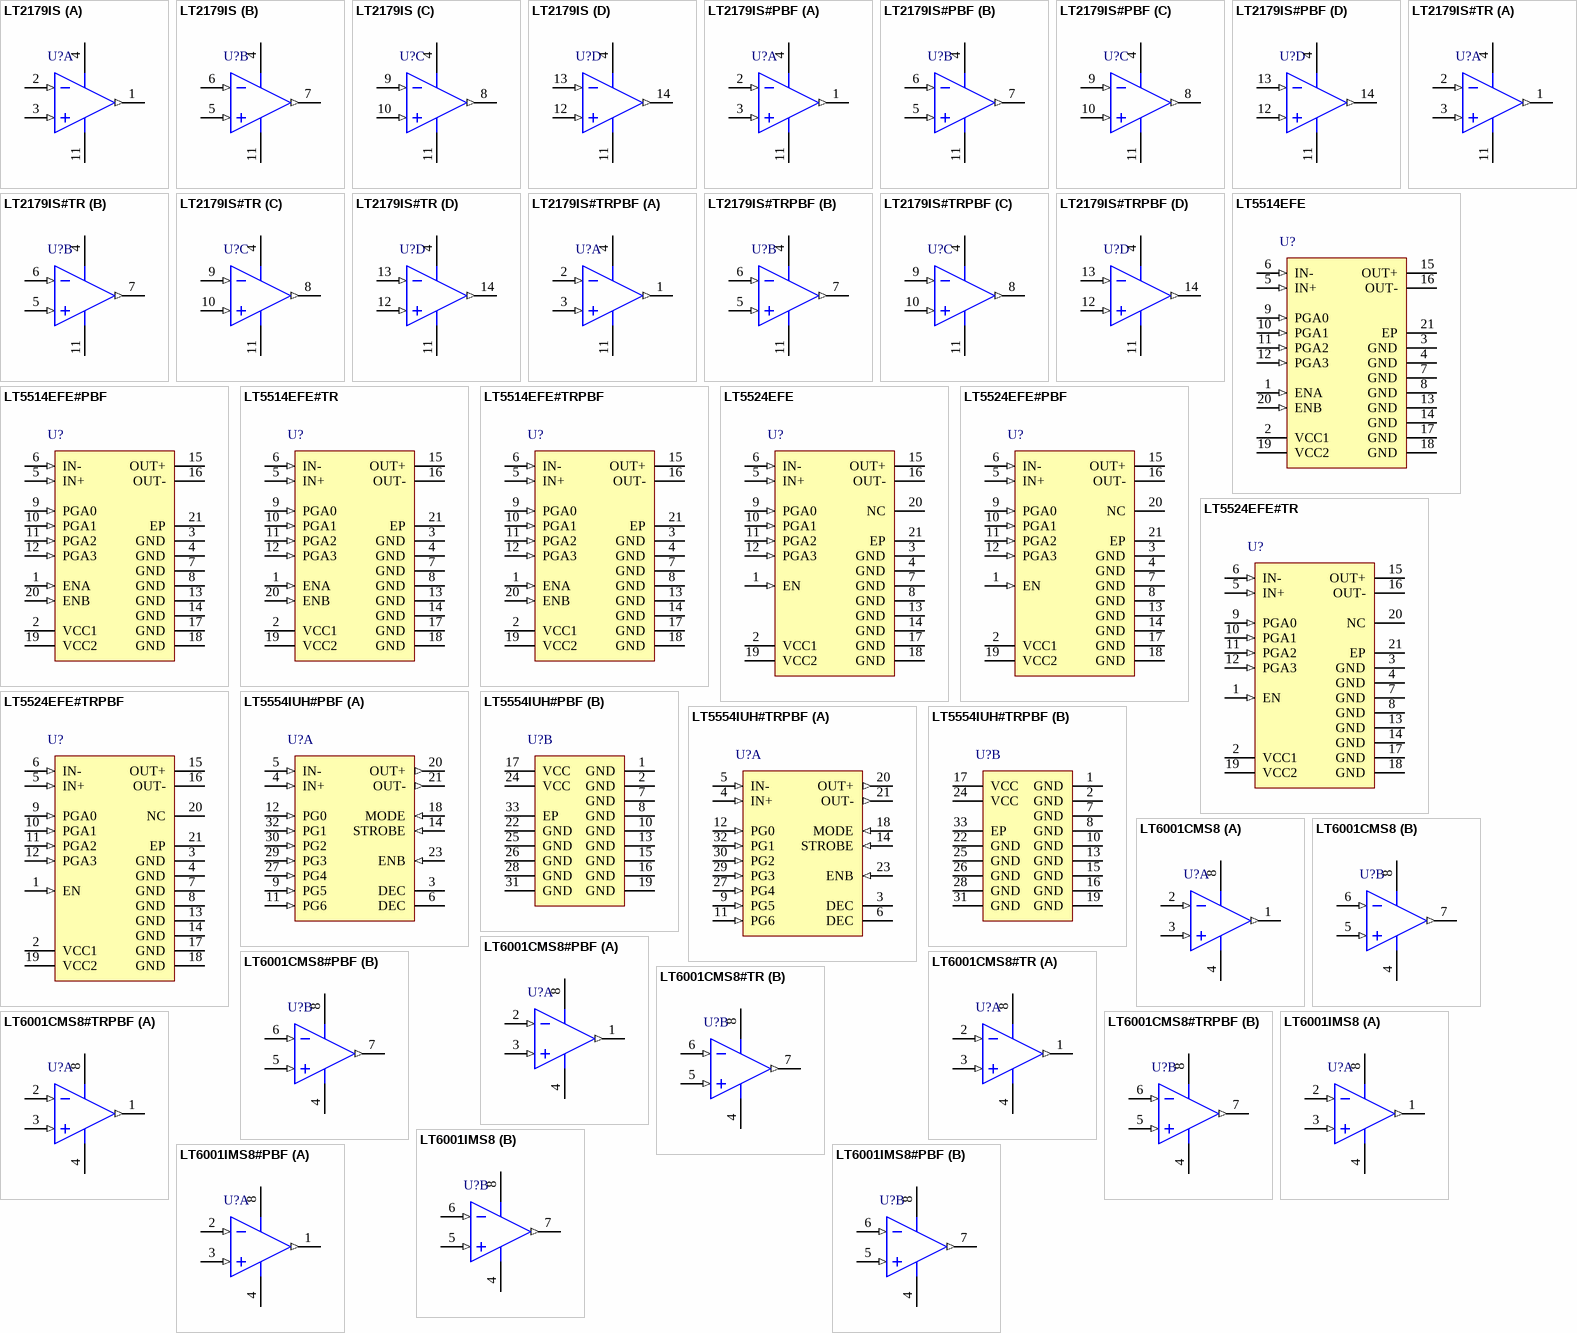
[diagram p4: symbols LT2179IS to LT6001IMS8#PBF]

## LT2179IS
designator U?
Quad Channel, Micropower, Standard Pinout, Single Supply Precision Operational Amplifier, 0.06 MHz Typical GBW, 0.025 V/us Typical SR, 2.2 to 44 V, 14-Pin SOIC (S-14), Industrial; Linear Technology Part Number: LT2179; Manufacturer: Linear Technology; PartNumber: LT2179IS; Channels (#): 4; GBW (MHz) Typical: 0.06; Is (mA) Typical: 0.013; SR (V/us) Typical: 0.025; Vos (mV) Guaranteed: 0.1; Vos (mV) Typical: 0.035; Vs Max (V): 44; Vs Min (V): 2.2; DatasheetVersion: Rev. C; PackageVersion: Rev G; PackageReference: LT-S-14; PackageDescription: 14-Lead Plastic Small Outline, Body 8.65 x 3.90 mm, Pitch 1.27 mm; Type: VFB; Mounting Technology: Surface Mount; ComponentLink1Description: Manufacturer URL; ComponentLink1URL: http://www.linear.com/; ComponentLink2Description: Datasheet; ComponentLink2URL: http://cds.linear.com/docs/en/datasheet/21789fc.pdf; ComponentLink3Description: Package Specification; ComponentLink3URL: http://cds.linear.com/docs/en/packaging/05081610_G_S14.pdf
footprint LT-S-14_N (SOIC, 14-Leads, Body 8.65x3.90mm, Pitch 1.27mm, IPC Medium Density)
footprint LT-S-14_L (SOIC, 14-Leads, Body 8.65x3.90mm, Pitch 1.27mm, IPC High Density)
footprint LT-S-14_M (SOIC, 14-Leads, Body 8.65x3.90mm, Pitch 1.27mm, IPC Low Density)
pins on every part: 4 V+ (power), 11 V- (power)
part A pins: 1 OUT A (out), 2 -IN A (in), 3 +IN A (in)
part B pins: 5 +IN B (in), 6 -IN B (in), 7 OUT B (out)
part C pins: 8 OUT C (out), 9 -IN C (in), 10 +IN C (in)
part D pins: 12 +IN D (in), 13 -IN D (in), 14 OUT D (out)

## LT2179IS#PBF
designator U?
Quad Channel, Micropower, Standard Pinout, Single Supply Precision Operational Amplifier, 0.06 MHz Typical GBW, 0.025 V/us Typical SR, 2.2 to 44 V, 14-Pin SOIC (S-14), Industrial, Pb-Free; Linear Technology Part Number: LT2179; Manufacturer: Linear Technology; PartNumber: LT2179IS#PBF; Channels (#): 4; GBW (MHz) Typical: 0.06; Is (mA) Typical: 0.013; SR (V/us) Typical: 0.025; Vos (mV) Guaranteed: 0.1; Vos (mV) Typical: 0.035; Vs Max (V): 44; Vs Min (V): 2.2; DatasheetVersion: Rev. C; PackageVersion: Rev G; PackageReference: LT-S-14; PackageDescription: 14-Lead Plastic Small Outline, Body 8.65 x 3.90 mm, Pitch 1.27 mm; Supplier 1: Digi-Key; Supplier Part Number 1: LT2179IS#PBF-ND; RoHS: Pb-Free; Type: VFB; Mounting Technology: Surface Mount; ComponentLink1Description: Manufacturer URL; ComponentLink1URL: http://www.linear.com/; ComponentLink2Description: Datasheet; ComponentLink2URL: http://cds.linear.com/docs/en/datasheet/21789fc.pdf; ComponentLink3Description: Package Specification; ComponentLink3URL: http://cds.linear.com/docs/en/packaging/05081610_G_S14.pdf
footprint LT-S-14_N (SOIC, 14-Leads, Body 8.65x3.90mm, Pitch 1.27mm, IPC Medium Density)
footprint LT-S-14_L (SOIC, 14-Leads, Body 8.65x3.90mm, Pitch 1.27mm, IPC High Density)
footprint LT-S-14_M (SOIC, 14-Leads, Body 8.65x3.90mm, Pitch 1.27mm, IPC Low Density)
pins on every part: 4 V+ (power), 11 V- (power)
part A pins: 1 OUT A (out), 2 -IN A (in), 3 +IN A (in)
part B pins: 5 +IN B (in), 6 -IN B (in), 7 OUT B (out)
part C pins: 8 OUT C (out), 9 -IN C (in), 10 +IN C (in)
part D pins: 12 +IN D (in), 13 -IN D (in), 14 OUT D (out)

## LT2179IS#TR
designator U?
Quad Channel, Micropower, Standard Pinout, Single Supply Precision Operational Amplifier, 0.06 MHz Typical GBW, 0.025 V/us Typical SR, 2.2 to 44 V, 14-Pin SOIC (S-14), Industrial, Reel; Linear Technology Part Number: LT2179; Manufacturer: Linear Technology; PartNumber: LT2179IS#TR; Channels (#): 4; GBW (MHz) Typical: 0.06; Is (mA) Typical: 0.013; SR (V/us) Typical: 0.025; Vos (mV) Guaranteed: 0.1; Vos (mV) Typical: 0.035; Vs Max (V): 44; Vs Min (V): 2.2; DatasheetVersion: Rev. C; PackageVersion: Rev G; PackageReference: LT-S-14; PackageDescription: 14-Lead Plastic Small Outline, Body 8.65 x 3.90 mm, Pitch 1.27 mm; Packing: Reel; Type: VFB; Mounting Technology: Surface Mount; ComponentLink1Description: Manufacturer URL; ComponentLink1URL: http://www.linear.com/; ComponentLink2Description: Datasheet; ComponentLink2URL: http://cds.linear.com/docs/en/datasheet/21789fc.pdf; ComponentLink3Description: Package Specification; ComponentLink3URL: http://cds.linear.com/docs/en/packaging/05081610_G_S14.pdf
footprint LT-S-14_N (SOIC, 14-Leads, Body 8.65x3.90mm, Pitch 1.27mm, IPC Medium Density)
footprint LT-S-14_L (SOIC, 14-Leads, Body 8.65x3.90mm, Pitch 1.27mm, IPC High Density)
footprint LT-S-14_M (SOIC, 14-Leads, Body 8.65x3.90mm, Pitch 1.27mm, IPC Low Density)
pins on every part: 4 V+ (power), 11 V- (power)
part A pins: 1 OUT A (out), 2 -IN A (in), 3 +IN A (in)
part B pins: 5 +IN B (in), 6 -IN B (in), 7 OUT B (out)
part C pins: 8 OUT C (out), 9 -IN C (in), 10 +IN C (in)
part D pins: 12 +IN D (in), 13 -IN D (in), 14 OUT D (out)

## LT2179IS#TRPBF
designator U?
Quad Channel, Micropower, Standard Pinout, Single Supply Precision Operational Amplifier, 0.06 MHz Typical GBW, 0.025 V/us Typical SR, 2.2 to 44 V, 14-Pin SOIC (S-14), Industrial, Pb-Free, Reel; Linear Technology Part Number: LT2179; Manufacturer: Linear Technology; PartNumber: LT2179IS#TRPBF; Channels (#): 4; GBW (MHz) Typical: 0.06; Is (mA) Typical: 0.013; SR (V/us) Typical: 0.025; Vos (mV) Guaranteed: 0.1; Vos (mV) Typical: 0.035; Vs Max (V): 44; Vs Min (V): 2.2; DatasheetVersion: Rev. C; PackageVersion: Rev G; PackageReference: LT-S-14; PackageDescription: 14-Lead Plastic Small Outline, Body 8.65 x 3.90 mm, Pitch 1.27 mm; Supplier 1: Digi-Key; Supplier Part Number 1: LT2179IS#TRPBF-ND; Packing: Reel; RoHS: Pb-Free; Type: VFB; Mounting Technology: Surface Mount; ComponentLink1Description: Manufacturer URL; ComponentLink1URL: http://www.linear.com/; ComponentLink2Description: Datasheet; ComponentLink2URL: http://cds.linear.com/docs/en/datasheet/21789fc.pdf; ComponentLink3Description: Package Specification; ComponentLink3URL: http://cds.linear.com/docs/en/packaging/05081610_G_S14.pdf
footprint LT-S-14_N (SOIC, 14-Leads, Body 8.65x3.90mm, Pitch 1.27mm, IPC Medium Density)
footprint LT-S-14_L (SOIC, 14-Leads, Body 8.65x3.90mm, Pitch 1.27mm, IPC High Density)
footprint LT-S-14_M (SOIC, 14-Leads, Body 8.65x3.90mm, Pitch 1.27mm, IPC Low Density)
pins on every part: 4 V+ (power), 11 V- (power)
part A pins: 1 OUT A (out), 2 -IN A (in), 3 +IN A (in)
part B pins: 5 +IN B (in), 6 -IN B (in), 7 OUT B (out)
part C pins: 8 OUT C (out), 9 -IN C (in), 10 +IN C (in)
part D pins: 12 +IN D (in), 13 -IN D (in), 14 OUT D (out)

## LT5514EFE
designator U?
Single Channel, Ultralow Distortion IF Amplifier / ADC Driver with Digitally Controlled Gain, 850 MHz Typical GBW, 4.75 to 5.25 V, 20-Pin SOP (FE-20), Extended; Linear Technology Part Number: LT5514; Manufacturer: Linear Technology; PartNumber: LT5514EFE; Channels (#): 1; GBW (MHz) Typical: 850; Is (mA) Typical: 148; Vs Max (V): 5.25; Vs Min (V): 4.75; PackageVersion: Rev I; PackageReference: LT-FE-20-EPV-CB; PackageDescription: 20-Lead Plastic TSSOP, Body 6.5 x 4.4 mm, Pitch 0.65 mm; Supplier 1: Digi-Key; Supplier Part Number 1: LT5514EFE-ND; Type: DIFF; Mounting Technology: Surface Mount; ComponentLink1Description: Manufacturer URL; ComponentLink1URL: http://www.linear.com/; ComponentLink2Description: Datasheet; ComponentLink2URL: http://cds.linear.com/docs/en/datasheet/5514f.pdf; ComponentLink3Description: Package Specification; ComponentLink3URL: http://cds.linear.com/docs/en/packaging/05081663_I_FE20%28CB%29.pdf
footprint LT-FE-20-EPV-CB_N (SOP, 20-Leads, Body 6.5x4.4mm, Pitch 0.65mm, Thermal Pad 3.86x2.74mm, IPC Medium Density)
footprint LT-FE-20-EPV-CB_L (SOP, 20-Leads, Body 6.5x4.4mm, Pitch 0.65mm, Thermal Pad 3.86x2.74mm, IPC High Density)
footprint LT-FE-20-EPV-CB_M (SOP, 20-Leads, Body 6.5x4.4mm, Pitch 0.65mm, Thermal Pad 3.86x2.74mm, IPC Low Density)
pins: 1 ENA (in) "Enable Pin for Amplifier A. When the input voltage is higher than 3V, amplifier A is turned on. When the input voltage is less than or equal to 0.6V, amplifier A is turned off. This pin is internally pulled to ground if not (See Datasheet)", 2 VCC1 (power) "Power Supply. This pin is internally connected to VCC2 (Pin 19). Decoupling capacitors (1000pF and 0.1mF for example) may be required in some applications.", 3 GND (power) "Ground.", 4 GND (power) "Ground.", 5 IN+ (in) "Positive Signal Input Pin with Internal DC Bias.", 6 IN- (in) "Negative Signal Input Pin with Internal DC Bias.", 7 GND (power) "Ground.", 8 GND (power) "Ground.", 9 PGA0 (in) "Amplifier PGA Control Input Pin for the 1.5dB Attenuation Step (see Programmable Gain table). Input is high when input voltage is greater than 3V. Input is low when input voltage is less than or equal to 0.6V. This pin is (See Datasheet)", 10 PGA1 (in) "Amplifier PGA Control Input Pin for the 3dB Attenuation Step (see Programmable Gain table). Input is high when input voltage is greater than 3V. Input is low when input voltage is less than or equal to 0.6V. This pin is (See Datasheet)", 11 PGA2 (in) "Amplifier PGA Control Input Pin for the 6dB Attenuation Step (see Programmable Gain table).Input is high when input voltage is greater than 3V. Input is low when input voltage is less than or equal to 0.6V. This pin is (See Datasheet)", 12 PGA3 (in) "Amplifier PGA Control Input Pin for 12dB Attenuation Step (see Programmable Gain table). Input is high when input voltage is greater than 3V. Input is low when input voltage is less than or equal to 0.6V. This pin is (See Datasheet)", 13 GND (power) "Ground.", 14 GND (power) "Ground.", 15 OUT+ (hiz) "Positive Amplifier Output. A transformer with center tap tied to VCC or a choke inductor is recommended to source the DC quiescent current.", 16 OUT- (hiz) "Negative Amplifier Output. A transformer with center tap tied to VCC or a choke inductor is recommended to source the DC quiescent current.", 17 GND (power) "Ground.", 18 GND (power) "Ground.", 19 VCC2 (power) "Power Supply. This pin is internally connected to VCC1 (Pin 2).", 20 ENB (in) "Enable Pin for Amplifier B. When the input voltage is higher than 3V, amplifier B is turned on. When the input voltage is less than or equal to 0.6V, amplifier B is turned off. This pin is internally pulled to ground if not (See Datasheet)", 21 EP (power) "Ground. This pin must be soldered to the printed circuit board ground plane for good heat transfer."